# Altium schematic symbol library switched_voltage_regulators.SchLib: 27 symbols
Pins are listed as number, name and electrical type; pins without a type are passive.

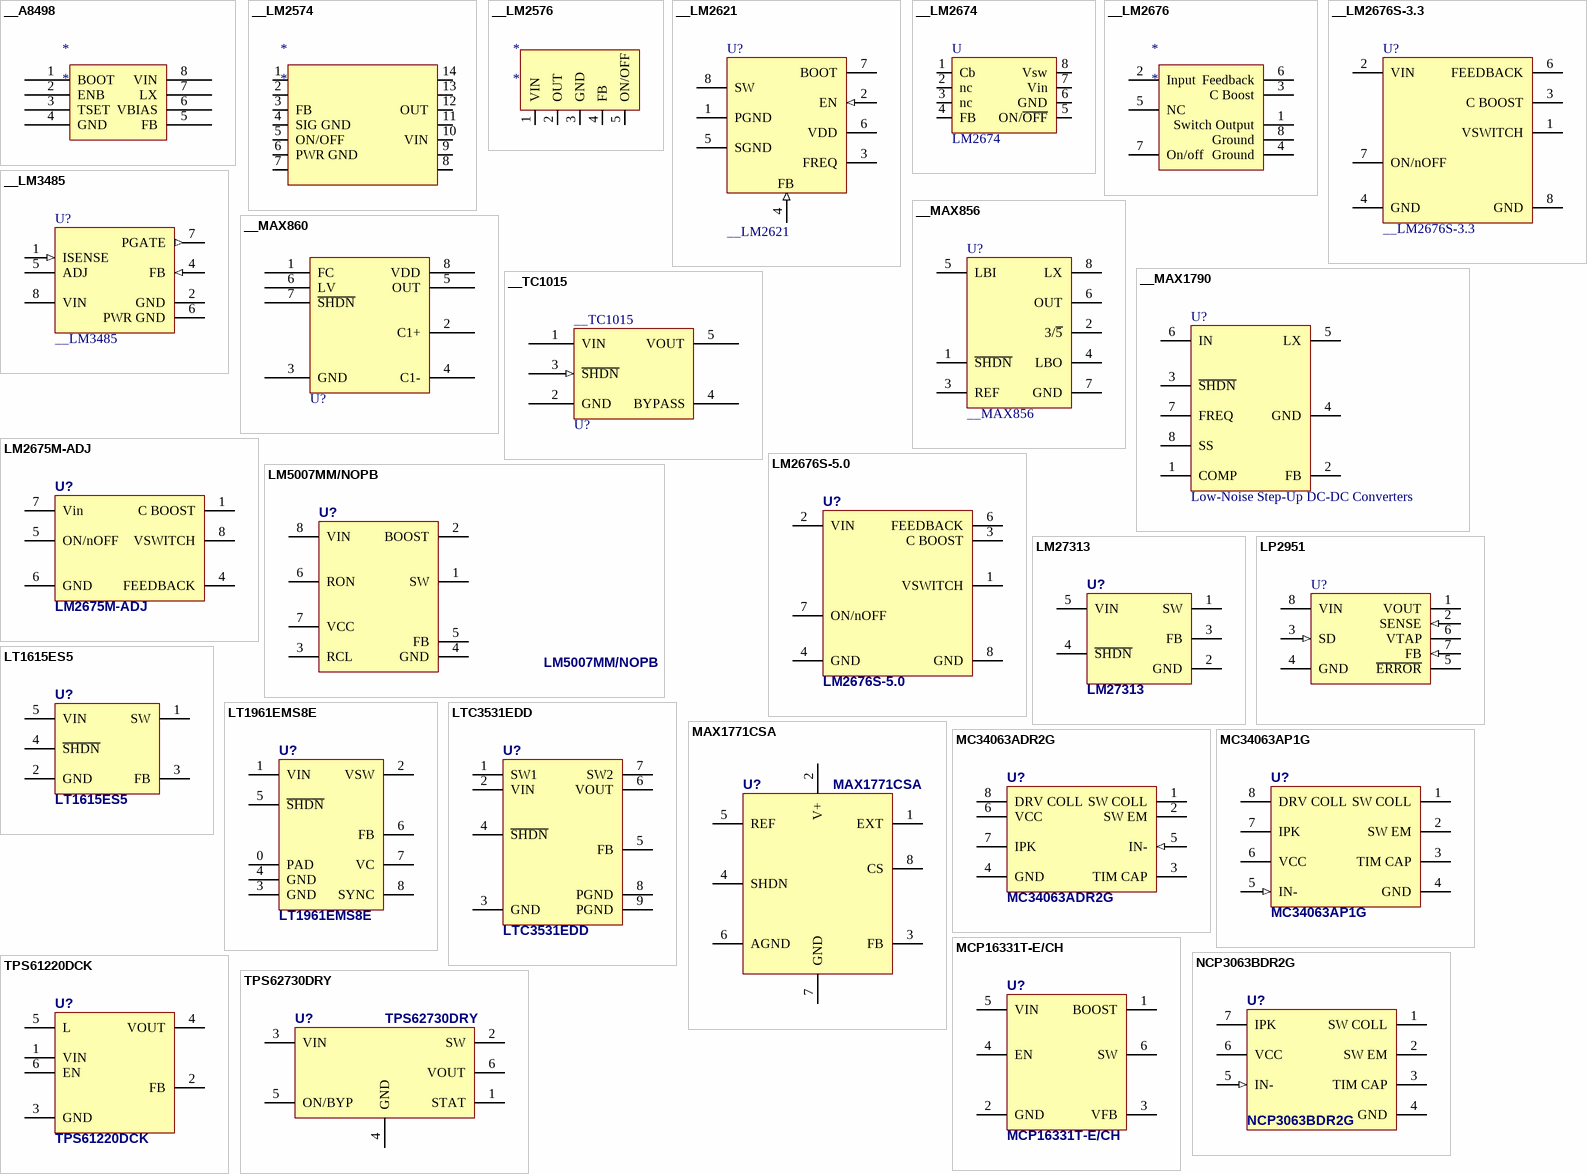
[diagram p0: symbols __A8498 to TPS62730DRY]

## __A8498
designator *
Step Down Regulator
footprint SOIC (PowerPad)
pins: 1 BOOT, 2 ENB, 3 TSET, 4 GND, 5 FB, 6 VBIAS, 7 LX, 8 VIN

## __LM2574
designator *
footprint 14-LW
pins: 1, 2, 3 FB, 4 SIG GND, 5 ON/OFF, 6 PWR GND, 7, 8, 9, 10 VIN, 11, 12 OUT, 13, 14

## __LM2576
designator *
footprint TO-263 (Footprint not found)
pins: 1 VIN, 2 OUT, 3 GND, 4 FB (oc), 5 ON/OFF

## __LM2621
designator U?
Low Input Voltage, Step-Up DC-DC Converter; Published: 21-Mar-2006; PackageReference: Micro8
footprint Micro8
pins: 1 PGND (power), 2 EN (in), 3 FREQ, 4 FB (in), 5 SGND (power), 6 VDD (power), 7 BOOT, 8 SW (power)

## __LM2674
designator U, comment LM2674
footprint SO8 (Footprint not found)
pins: 1 Cb, 2 nc, 3 nc, 4 FB, 5 ON/~{OFF}, 6 GND, 7 Vin, 8 Vsw

## __LM2676
designator *
footprint TO-2637 (Footprint not found)
footprint TO-263-7 (Footprint not found)
pins: 1 Switch Output, 2 Input (power), 3 C Boost, 4 Ground (power), 5 NC, 6 Feedback (power), 7 On/off, 8 Ground (power)

## __LM2676S-3.3
designator U?
High Efficiency 3A Step-Down Simple Switcher 3.3V Regulator in TO-263 (D2PAK)
footprint TO-263-7 (D2PAK-7)
pins: 1 VSWITCH, 2 VIN (power), 3 C BOOST, 4 GND (power), 5 NC hidden, 6 FEEDBACK (power), 7 ON/nOFF, 8 GND (power)

## __LM3485
designator U?
Hysteretic PFET Buck Controller; Published: 20-Mar-2006; PackageReference: Micro8
footprint Micro8
pins: 1 ISENSE (in), 2 GND (power), 4 FB (in), 5 ADJ, 6 PWR GND (power), 7 PGATE (out), 8 VIN (power)

## __MAX856
designator U?
__3.3V/5V Step-Up DC-DC Converter
footprint SO8 (Small Outline; 8 Leads; Body Width 3.7 mm; Pitch 1.27 mm)
pins: 1 ~{SHDN}, 2 3/~{5}, 3 REF, 4 LBO, 5 LBI, 6 OUT, 7 GND, 8 LX

## __MAX860
designator U?  (value not drawn)
50mA, Frequency-Selectable, Switched-Capacitor Voltage Converter
footprint SO8 (Small Outline; 8 Leads; Body Width 3.7 mm; Pitch 1.27 mm)
pins: 1 FC, 2 C1+, 3 GND, 4 C1-, 5 OUT, 6 LV, 7 ~{SHDN}, 8 VDD

## __MAX1790
designator U?, comment Low-Noise Step-Up DC-DC Converters
footprint uMAX/8
pins: 1 COMP, 2 FB, 3 ~{SHDN}, 4 GND, 5 LX, 6 IN, 7 FREQ, 8 SS

## __TC1015
designator U?
100 mA CMOS LDOs with Shutdown and Reference Bypass
footprint SO-G5/P.95 (SOT-23/SC-74A; 5 Leads; Body 3.1 x 3 mm, inc. leads (LxW max))
pins: 1 VIN (power), 2 GND (power), 3 ~{SHDN} (in), 4 BYPASS, 5 VOUT (power)

## LM2675M-ADJ
designator U?
High Efficiency Adjustable 1A Step-Down Voltage  Regulator; Supplier 1: TME; Supplier Part Number 1: LM2675M-ADJNOPB
footprint SO8 (Small Outline; 8 Leads; Body Width 3.7 mm; Pitch 1.27 mm)
pins: 1 C BOOST, 2 NC (power) hidden, 3 NC hidden, 4 FEEDBACK (power), 5 ON/nOFF, 6 GND (power), 7 Vin (power), 8 VSWITCH

## LM2676S-5.0
designator U?
High Efficiency 5V@3A Step-Down Voltage Regulator
footprint TO-263-7 (D2PAK-7)
pins: 1 VSWITCH, 2 VIN (power), 3 C BOOST, 4 GND (power), 5 NC hidden, 6 FEEDBACK (power), 7 ON/nOFF, 8 GND (power)

## LM5007MM/NOPB
designator U?
High Voltage 80-V Step Down Switching Regulator; Supplier 1: Farnell; Supplier 2: Farnell; Supplier 3: TME; Supplier 4: Farnell; Supplier 5: Farnell; Supplier Part Number 1: 9779345; Supplier Part Number 2: 9779345RL; Supplier Part Number 3: LM5007MM/NOPB; Supplier Part Number 4: 2436178; Supplier Part Number 5: 2412069
footprint MSOP8_0.65mm (0.65mm PITCH MSOP8)
pins: 1 SW, 2 BOOST, 3 RCL, 4 GND, 5 FB, 6 RON, 7 VCC, 8 VIN

## LM27313
designator U?
1.6-MHz Boost Converter With 30-V Internal FET Switch in SOT-23; Published: 14-Sep-2006; Supplier 1: Farnell; Supplier Part Number 1: 1564771
footprint SOT-23-5 (, AKA: SOT753 (NXP), TSOP5 (NXP))
pins: 1 SW, 2 GND, 3 FB, 4 ~{SHDN}, 5 VIN

## LP2951
designator U?
Adjustable Micropower Voltage Regulator; Published: 21-Mar-2006; PackageReference: SO8
footprint SO8 (Small Outline; 8 Leads; Body Width 3.7 mm; Pitch 1.27 mm)
pins: 1 VOUT (power), 2 SENSE (in), 3 SD (in), 4 GND (power), 5 ~{ERROR}, 6 VTAP, 7 FB (in), 8 VIN (power)

## LT1615ES5
designator U?
Micropower Step-Up  DC/DC Converter
footprint SOT-23-5-THIN (, AKA: SOT753 (NXP), TSOP5 (NXP))
pins: 1 SW, 2 GND, 3 FB, 4 ~{SHDN}, 5 VIN

## LT1961EMS8E
designator U?
1.5A, 1.25MHz Step-Up Switching Regulator; Supplier 1: TME; Supplier 2: Farnell; Supplier Part Number 1: LT1961EMS8EPBF; Supplier Part Number 2: 2254842
footprint MSOP8_DIE_PAD (8-Lead Plastic MSOP, Exposed Die Pad)
pins: 0 PAD, 1 VIN, 2 VSW, 3 GND, 4 GND, 5 ~{SHDN}, 6 FB, 7 VC, 8 SYNC

## LTC3531EDD
designator U?
200mA Buck-Boost Synchronous DC/DC Converters; Supplier 1: Farnell; Supplier 2: RSComponents; Supplier 3: RS Components; Supplier Part Number 1: 1663711; Supplier Part Number 2: 8226799; Supplier Part Number 3: 8226799P
footprint DFN8 3X3 (8 lead 3 x 3 mm)
pins: 1 SW1, 2 VIN, 3 GND, 4 ~{SHDN}, 5 FB, 6 VOUT, 7 SW2, 8 PGND, 9 PGND

## MAX1771CSA
designator U?
12V or Adjustable, High-Efficiency, Low IQ, Step-Up DC-DC Controller; Supplier 1: TME; Supplier 2: Farnell; Supplier Part Number 1: MAX1771CSA+; Supplier Part Number 2: 1379870
footprint SO8 (Small Outline; 8 Leads; Body Width 3.7 mm; Pitch 1.27 mm)
pins: 1 EXT, 2 V+, 3 FB, 4 SHDN, 5 REF, 6 AGND, 7 GND, 8 CS

## MC34063ADR2G
designator U?
1.5 A, Step-Up/Down/Inverting Switching Regulator; Published: 22-Nov-2006; PackageReference: SO8; Supplier 1: TME; Supplier Part Number 1: MC34063ADR2G
footprint SO8 (Small Outline; 8 Leads; Body Width 3.7 mm; Pitch 1.27 mm)
pins: 1 SW COLL, 2 SW EM, 3 TIM CAP, 4 GND (power), 5 IN- (in), 6 VCC (power), 7 IPK, 8 DRV COLL (oc)

## MC34063AP1G
designator U?
1.5 A, Step-Up/Down/Inverting Switching Regulator; Published: 22-Nov-2006; PackageReference: SO8; Supplier 1: Farnell; Supplier 2: TME; Supplier 3: TME; Supplier Part Number 1: 1191818; Supplier Part Number 2: KA34063; Supplier Part Number 3: MC34063AP1G
footprint DIP8
pins: 1 SW COLL, 2 SW EM, 3 TIM CAP, 4 GND (power), 5 IN- (in), 6 VCC (power), 7 IPK, 8 DRV COLL (oc)

## MCP16331T-E/CH
designator U?
High-Voltage Input Integrated Switch Step-Down Regulator; Supplier 1: Farnell; Supplier 2: Farnell; Supplier 3: TME; Supplier Part Number 1: 2448515RL; Supplier Part Number 2: 2448515; Supplier Part Number 3: MCP16331T-E/CH
footprint SOT-23-6 (, AKA: SOT753 (NXP), TSOP5 (NXP))
pins: 1 BOOST, 2 GND, 3 VFB, 4 EN, 5 VIN, 6 SW

## NCP3063BDR2G
designator U?
DC-DC Converter NCP3063BDR2G (Farnell 1547126); Published: 22-Nov-2006; PackageReference: SO8; Supplier 1: Farnell; Supplier 2: Farnell; Supplier 3: Farnell; Supplier Part Number 1: 1547126; Supplier Part Number 2: 2126136; Supplier Part Number 3: 1547126RL
footprint SO8 (Small Outline; 8 Leads; Body Width 3.7 mm; Pitch 1.27 mm)
footprint DIP8
footprint DIP8_MANUAL
pins: 1 SW COLL, 2 SW EM, 3 TIM CAP, 4 GND (power), 5 IN- (in), 6 VCC (power), 7 IPK, 8 NC (oc) hidden
1 alternate drawing of the same symbol

## TPS61220DCK
designator U?
Low Input Voltage, 0.7V Boost Converter with 5.5μA Quiescent Current; Supplier 1: Farnell; Supplier 2: Farnell; Supplier Part Number 1: 1710823RL; Supplier Part Number 2: 1710823
footprint SOT-323-6 (SOT-363, SC88, SC70-6) (SOT-363; 6 Leads; Body 2.2 x 2.2 mm, inc. leads (LxW max))
pins: 1 VIN, 2 FB, 3 GND, 4 VOUT, 5 L, 6 EN

## TPS62730DRY
designator U?
Step Down Converter with Bypass Mode for Ultra Low Power Wireless Applications
footprint SON50P100X60-6N (SON, 6-Leads, Body 1,45x1,00mm, Pitch 0,50mm, IPC Medium Density)
pins: 1 STAT, 2 SW, 3 VIN, 4 GND, 5 ON/BYP, 6 VOUT